# EAGLE library part MC6883 (library micro-motorola-rp)
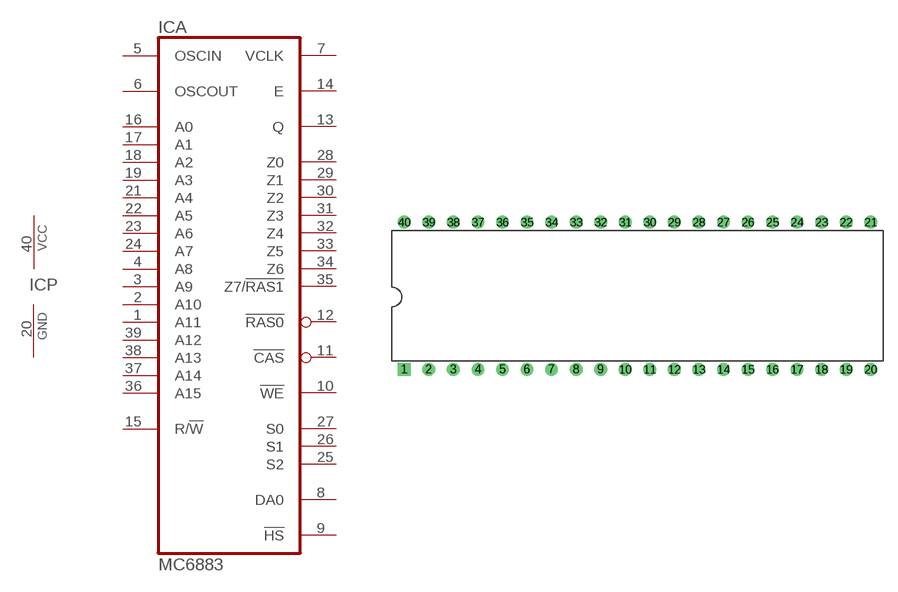
[diagram p83: symbol with the pads of DIL40; footprint DIL40]

Designator prefix IC; gates A=MC6883 P=PWRN

## MC6883  [DIL40]
1  A:A11  in
2  A:A10  in
3  A:A9  in
4  A:A8  in
5  A:OSCIN  in
6  A:OSCOUT  out
7  A:VCLK
8  A:DA0  in
9  A:!HS  in
10  A:!WE  out
11  A:!CAS  out
12  A:!RAS0  out
13  A:Q  out
14  A:E  out
15  A:R/!W  in
16  A:A0  in
17  A:A1  in
18  A:A2  in
19  A:A3  in
20  P:GND  pwr
21  A:A4  in
22  A:A5  in
23  A:A6  in
24  A:A7  in
25  A:S2  out
26  A:S1  out
27  A:S0  out
28  A:Z0  out
29  A:Z1  out
30  A:Z2  out
31  A:Z3  out
32  A:Z4  out
33  A:Z5  out
34  A:Z6  out
35  A:Z7/!RAS1  out
36  A:A15  in
37  A:A14  in
38  A:A13  in
39  A:A12  in
40  P:VCC  pwr

## Footprint DIL40 (pad centres in mm)
Dual In Line Package
drill 0.813 square: 1 -24.13,-7.62
drill 0.813: 2 -21.59,-7.62; 3 -19.05,-7.62; 4 -16.51,-7.62; 5 -13.97,-7.62; 6 -11.43,-7.62; 7 -8.89,-7.62; 8 -6.35,-7.62; 9 -3.81,-7.62; 10 -1.27,-7.62; 11 1.27,-7.62; 12 3.81,-7.62; 13 6.35,-7.62; 14 8.89,-7.62; 15 11.43,-7.62; 16 13.97,-7.62; 17 16.51,-7.62; 18 19.05,-7.62; 19 21.59,-7.62; 20 24.13,-7.62; 21 24.13,7.62; 22 21.59,7.62; 23 19.05,7.62; 24 16.51,7.62; 25 13.97,7.62; 26 11.43,7.62; 27 8.89,7.62; 28 6.35,7.62; 29 3.81,7.62; 30 1.27,7.62; 31 -1.27,7.62; 32 -3.81,7.62; 33 -6.35,7.62; 34 -8.89,7.62; 35 -11.43,7.62; 36 -13.97,7.62; 37 -16.51,7.62; 38 -19.05,7.62; 39 -21.59,7.62; 40 -24.13,7.62